# Altium schematic symbol library TI Series.SchLib: 53 symbols
Pins are listed as number, name and electrical type; pins without a type are passive.

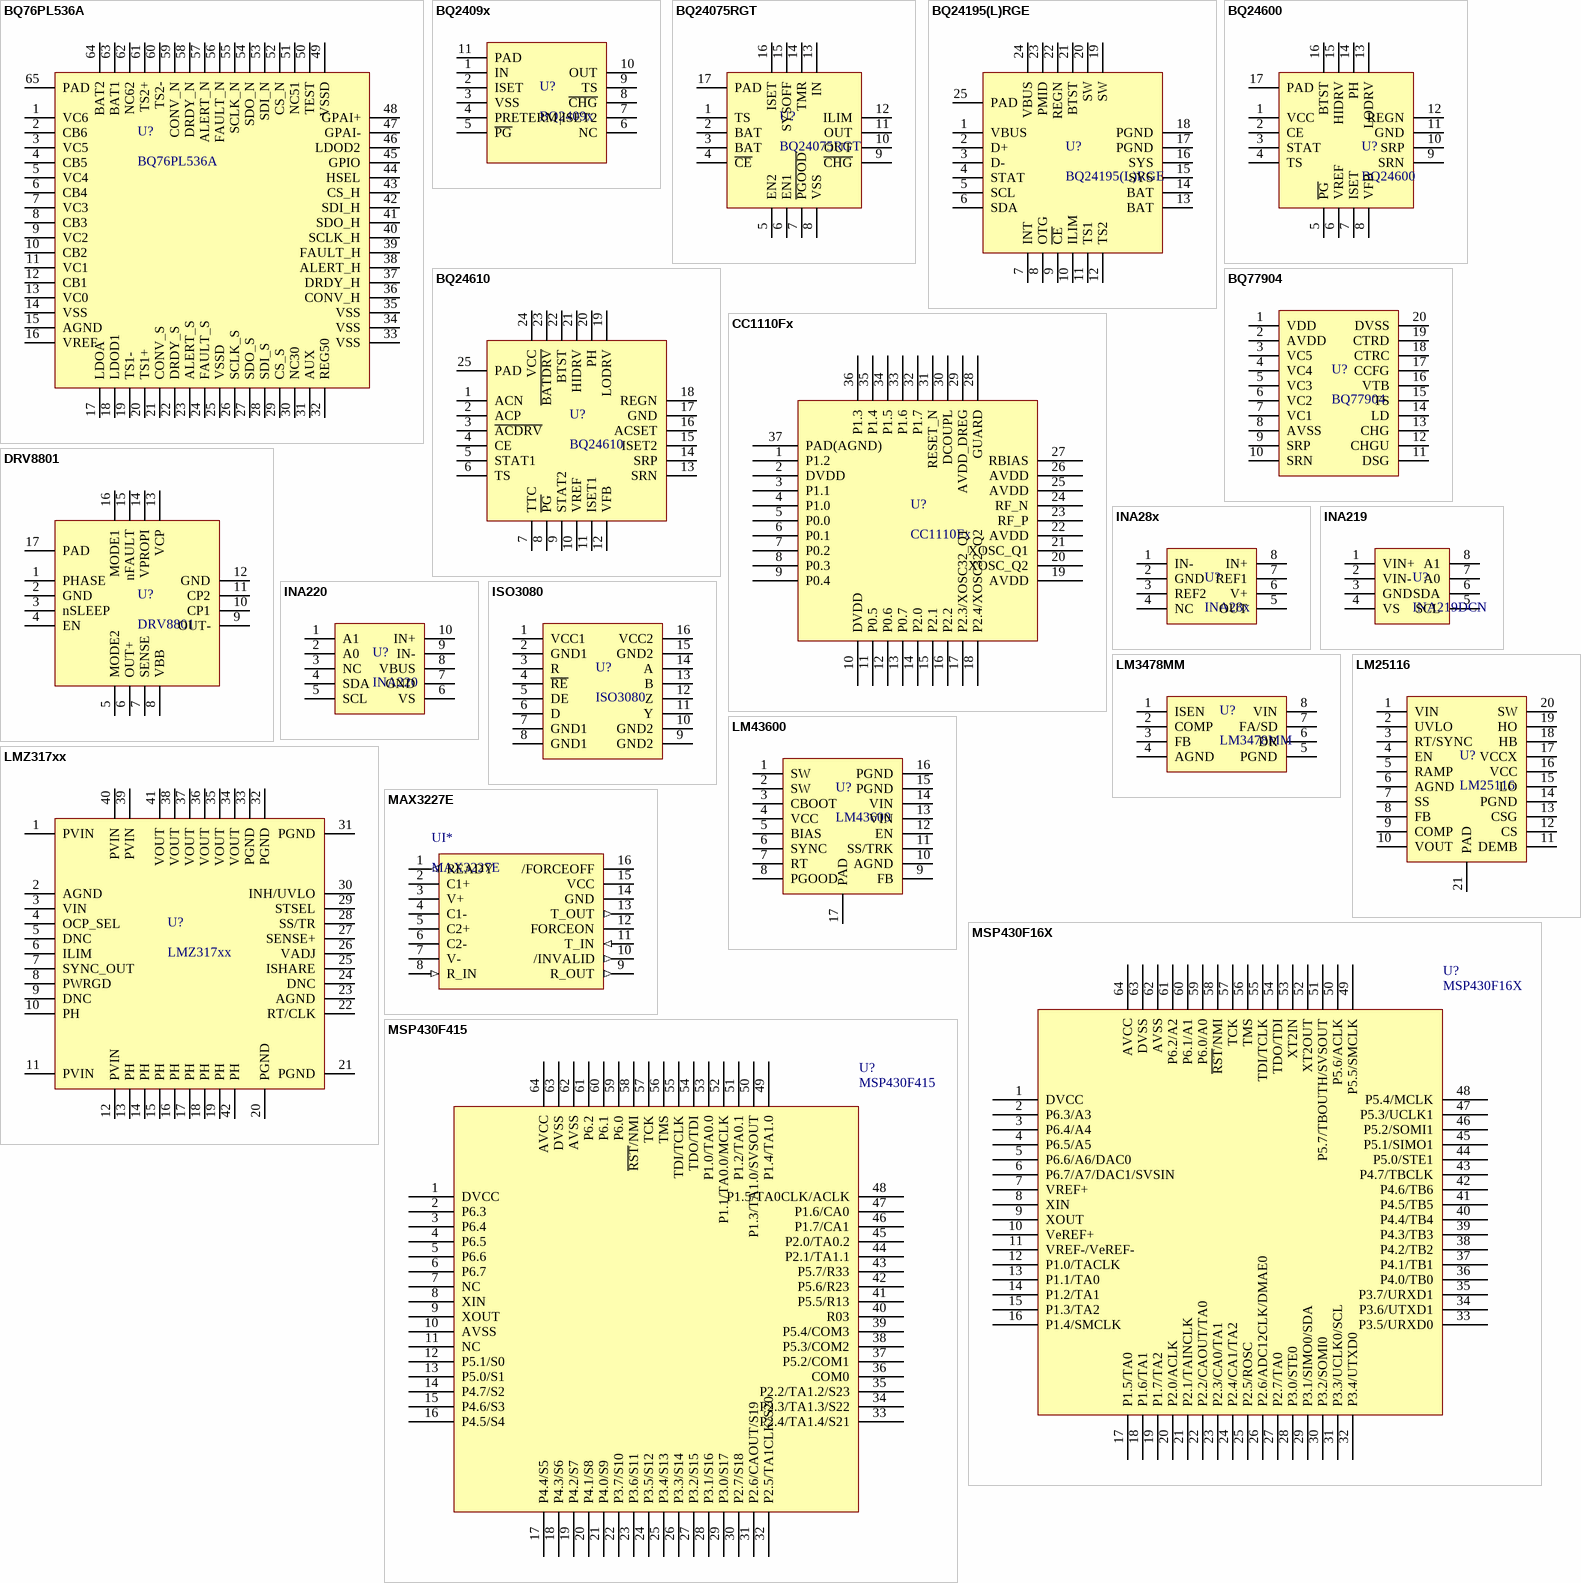
[diagram p0: symbols BQ76PL536A to MSP430F415]

## BQ76PL536A
designator U?
3-to-6 Series Cell Lithium-Ion Battery Monitor and Secondary Protection IC  for Applications
footprint QFP-64-10x10-w.TP-IPC (TSQFP, 64-Leads, Body 10.00x10.00mm, Pitch 0.50mm, Thermal Pad 6.50x6.50mm, IPC Medium Density)
pins: 1 VC6, 2 CB6, 3 VC5, 4 CB5, 5 VC4, 6 CB4, 7 VC3, 8 CB3, 9 VC2, 10 CB2, 11 VC1, 12 CB1, 13 VC0, 14 VSS, 15 AGND, 16 VREF, 17 LDOA, 18 LDOD1, 19 TS1-, 20 TS1+, 21 CONV_S, 22 DRDY_S, 23 ALERT_S, 24 FAULT_S, 25 VSSD, 26 SCLK_S, 27 SDO_S, 28 SDI_S, 29 CS_S, 30 NC30, 31 AUX, 32 REG50, 33 VSS, 34 VSS, 35 VSS, 36 CONV_H, 37 DRDY_H, 38 ALERT_H, 39 FAULT_H, 40 SCLK_H, 41 SDO_H, 42 SDI_H, 43 CS_H, 44 HSEL, 45 GPIO, 46 LDOD2, 47 GPAI-, 48 GPAI+, 49 VSSD, 50 TEST, 51 NC51, 52 CS_N, 53 SDI_N, 54 SDO_N, 55 SCLK_N, 56 FAULT_N, 57 ALERT_N, 58 DRDY_N, 59 CONV_N, 60 TS2-, 61 TS2+, 62 NC62, 63 BAT1, 64 BAT2, 65 PAD

## BQ2409x
designator U?
Single-Input, Single Cell Li-Ion and Li-Pol Battery Charger
footprint TSSOP-10-3x3-w.TP-IPC (TSSOP, 10-Leads, Body 3.00x3.00mm, Pitch 0.50mm, Thermal Pad 1.88.2x1.57.2mm, IPC Medium Density)
pins: 1 IN, 2 ISET, 3 VSS, 4 PRETERM, 5 ~{PG}, 6 NC, 7 |ISET2, 8 ~{CHG}, 9 TS, 10 OUT, 11 PAD

## BQ24075RGT
designator U?
1.5A USB-FRIENDLY Li-Ion BATTERY CHARGER AND POWER-PATH MANAGEMENT IC
footprint QFN-16-3x3-w.TP-IPC (QFN, 16-Leads, Body 3.00x3.00mm, Pitch 0.50mm, Thermal Pad 1.60x1.60mm, IPC Medium Density)
pins: 1 TS, 2 BAT, 3 BAT, 4 ~{CE}, 5 EN2, 6 EN1, 7 ~{PGOOD}, 8 VSS, 9 ~{CHG}, 10 OUT, 11 OUT, 12 ILIM, 13 IN, 14 TMR, 15 SYSOFF, 16 ISET, 17 PAD

## BQ24195(L)RGE
designator U?
I2C Controlled 2.5A / 4.5A Single Cell USB/Adapter Charger With 5.1V at 1A / 5.1V at 2.1A Synchronous Boost Operation
footprint QFN-24-4x4-w.TP-IPC (QFN, 24-Leads, Body 4.00x4.00mm, Pitch 0.50mm, Thermal Pad 2.70x2.70mm, IPC Medium Density)
pins: 1 VBUS, 2 D+, 3 D-, 4 STAT, 5 SCL, 6 SDA, 7 INT, 8 OTG, 9 ~{CE}, 10 ILIM, 11 TS1, 12 TS2, 13 BAT, 14 BAT, 15 SYS, 16 SYS, 17 PGND, 18 PGND, 19 SW, 20 SW, 21 BTST, 22 REGN, 23 PMID, 24 VBUS, 25 PAD

## BQ24600
designator U?
Stand-Alone Synchronous Switch-Mode Li-Ion or Li-Polymer Battery Charger with Low Iq
footprint QFN-16-3.5x3.5-w.TP-IPC (QFN, 16-Leads, Body 3.50x3.50mm, Pitch 0.50mm, Thermal Pad 2.14x2.14mm, IPC Medium Density)
pins: 1 VCC, 2 CE, 3 STAT, 4 TS, 5 ~{PG}, 6 VREF, 7 ISET, 8 VFB, 9 SRN, 10 SRP, 11 GND, 12 REGN, 13 LODRV, 14 PH, 15 HIDRV, 16 BTST, 17 PAD

## BQ24610
designator U?
Stand-Alone Synchronous Switched-Mode Li-Ion or Li-Polymer Battery Charger  With System Power Selector and Low Iq
footprint QFN-24-4x4-w.TP-IPC (QFN, 24-Leads, Body 4.00x4.00mm, Pitch 0.50mm, Thermal Pad 2.70x2.70mm, IPC Medium Density)
pins: 1 ACN, 2 ACP, 3 ~{ACDRV}, 4 CE, 5 STAT1, 6 TS, 7 TTC, 8 ~{PG}, 9 STAT2, 10 VREF, 11 ISET1, 12 VFB, 13 SRN, 14 SRP, 15 ISET2, 16 ACSET, 17 GND, 18 REGN, 19 LODRV, 20 PH, 21 HIDRV, 22 BTST, 23 ~{BATDRV}, 24 VCC, 25 PAD

## BQ77904
designator U?
3-5S Ultra Low-Power Voltage, Current, Temperature, and Open Wire Stackable Lithium-ion Battery Protector
footprint TSSOP-20-4.4x6.5-IPC (TSSOP, 20-Leads, Body 6.50x4.40mm, Pitch 0.65mm, IPC Medium Density)
pins: 1 VDD, 2 AVDD, 3 VC5, 4 VC4, 5 VC3, 6 VC2, 7 VC1, 8 AVSS, 9 SRP, 10 SRN, 11 DSG, 12 CHGU, 13 CHG, 14 LD, 15 TS, 16 VTB, 17 CCFG, 18 CTRC, 19 CTRD, 20 DVSS

## CC1110Fx
designator U?
Low-Power SoC (System-on-Chip) with MCU, Memory,   Sub-1 GHz RF T ransceiver
footprint QFN-36-6x6-w.TP-IPC (QFN, 36-Leads, Body 6.00x6.00mm, Pitch 0.50mm, Thermal Pad 4.40x4.40mm, IPC Medium Density)
pins: 1 P1.2, 2 DVDD, 3 P1.1, 4 P1.0, 5 P0.0, 6 P0.1, 7 P0.2, 8 P0.3, 9 P0.4, 10 DVDD, 11 P0.5, 12 P0.6, 13 P0.7, 14 P2.0, 15 P2.1, 16 P2.2, 17 P2.3/XOSC32_Q1, 18 P2.4/XOSC32_Q2, 19 AVDD, 20 XOSC_Q2, 21 XOSC_Q1, 22 AVDD, 23 RF_P, 24 RF_N, 25 AVDD, 26 AVDD, 27 RBIAS, 28 GUARD, 29 AVDD_DREG, 30 DCOUPL, 31 RESET_N, 32 P1.7, 33 P1.6, 34 P1.5, 35 P1.4, 36 P1.3, 37 PAD(AGND)

## DRV8801
designator U?
DMOS Full-Bridge Motor Drivers
footprint QFN-16-4x4-w.TP-IPC (QFN, 16-Leads, Body 4.00x4.00mm, Pitch 0.65mm, Thermal Pad 2.70x2.70mm, IPC Medium Density)
pins: 1 PHASE, 2 GND, 3 nSLEEP, 4 EN, 5 MODE2, 6 OUT+, 7 SENSE, 8 VBB, 9 OUT-, 10 CP1, 11 CP2, 12 GND, 13 VCP, 14 VPROPI, 15 nFAULT, 16 MODE1, 17 PAD

## INA28x
designator U?
High-Accuracy, Wide Common-Mode Range, Bidirectional  Current Shunt Monitors, Zero-Drift Series
footprint SOP-8-3.9x4.9-IPC (SOP, 8-Leads, Body 4.90x3.90mm, Pitch 1.27mm, IPC Medium Density)
pins: 1 IN-, 2 GND, 3 REF2, 4 NC, 5 OUT, 6 V+, 7 REF1, 8 IN+

## INA219
designator U?, comment INA219DCN
Zero-Drift, Bi-Directional CURRENT/POWER MONITOR with I2C Interface
footprint SOT23-8-IPC (SOT23, 8-Leads, Body 2.90x2.80mm, Pitch 0.65mm, IPC Medium Density)
pins: 1 VIN+, 2 VIN-, 3 GND, 4 VS, 5 SCL, 6 SDA, 7 A0, 8 A1

## INA220
designator U?
High- or Low-Side, Bidirectional Current and Power Monitor With Two-Wire Interface
footprint TSSOP-10-3x3-IPC (TSSOP, 10-Leads, Body 3.00x3.00mm, Pitch 0.50mm, IPC Medium Density)
pins: 1 A1, 2 A0, 3 NC, 4 SDA, 5 SCL, 6 VS, 7 GND, 8 VBUS, 9 IN-, 10 IN+

## ISO3080
designator U?
ISOLATED 5-V FULL-DUPLEX RS-485 TRANSCEIVERS
footprint SOP-16-7.5x10.3-IPC (SOIC, 16-Leads, Body 10.30x7.50mm, Pitch 1.27mm, IPC Medium Density)
pins: 1 VCC1, 2 GND1, 3 R, 4 ~{RE}, 5 DE, 6 D, 7 GND1, 8 GND1, 9 GND2, 10 GND2, 11 Y, 12 Z, 13 B, 14 A, 15 GND2, 16 VCC2

## LM3478MM
designator U?
High-Efficiency Low-Side N-Channel Controller for Switching Regulator
footprint TSSOP-8-3x3-IPC (TSSOP, 8-Leads, Body 3.00x3.00mm, Pitch 0.65mm, IPC Medium Density)
pins: 1 ISEN, 2 COMP, 3 FB, 4 AGND, 5 PGND, 6 DR, 7 FA/SD, 8 VIN

## LM25116
designator U?
Wide-Range Synchronous Buck Controller
footprint TSSOP-20-4.4x6.5-w.TP-IPC (TSOP, 20-Leads, Body 6.50x4.40mm, Pitch 0.65mm, Thermal Pad 4.35.2x3.15.2mm, IPC Medium Density)
pins: 1 VIN, 2 UVLO, 3 RT/SYNC, 4 EN, 5 RAMP, 6 AGND, 7 SS, 8 FB, 9 COMP, 10 VOUT, 11 DEMB, 12 CS, 13 CSG, 14 PGND, 15 LO, 16 VCC, 17 VCCX, 18 HB, 19 HO, 20 SW, 21 PAD

## LM43600
designator U?
SIMPLE SWITCHER? 3.5 V to 36 V 0.5 A Synchronous Step-Down Voltage Converter
footprint TSSOP-16-4.4x5.0-w.TP-IPC (TSOP, 16-Leads, Body 5.00x4.40mm, Pitch 0.65mm, Thermal Pad 3.29.2x2.41.2mm, IPC Medium Density)
pins: 1 SW, 2 SW, 3 CBOOT, 4 VCC, 5 BIAS, 6 SYNC, 7 RT, 8 PGOOD, 9 FB, 10 AGND, 11 SS/TRK, 12 EN, 13 VIN, 14 VIN, 15 PGND, 16 PGND, 17 PAD

## LMZ317xx
designator U?
SIMPLE SWITCHER? Power Module with 2.95-V to 17-V Input and  Current Sharing in QFN Package
footprint QFN(TI-RVQ)-42-10x10-IPC (QFN(TI-RVQ), 42-Leads, Body 10.00x10.00mm, Pitch 0.80mm, IPC Medium Density)
pins: 1 PVIN, 2 AGND, 3 VIN, 4 OCP_SEL, 5 DNC, 6 ILIM, 7 SYNC_OUT, 8 PWRGD, 9 DNC, 10 PH, 11 PVIN, 12 PVIN, 13 PH, 14 PH, 15 PH, 16 PH, 17 PH, 18 PH, 19 PH, 20 PGND, 21 PGND, 22 RT/CLK, 23 AGND, 24 DNC, 25 ISHARE, 26 VADJ, 27 SENSE+, 28 SS/TR, 29 STSEL, 30 INH/UVLO, 31 PGND, 32 PGND, 33 PGND, 34 VOUT, 35 VOUT, 36 VOUT, 37 VOUT, 38 VOUT, 39 PVIN, 40 PVIN, 41 VOUT, 42 PH

## MAX3227E
designator UI*
RS-232 Transceiver
footprint SSOP-16_208mil
pins: 1 READY (out), 2 C1+, 3 V+, 4 C1-, 5 C2+, 6 C2-, 7 V-, 8 R_IN (in), 9 R_OUT (out), 10 /INVALID (out), 11 T_IN (in), 12 FORCEON, 13 T_OUT (out), 14 GND (power), 15 VCC (power), 16 /FORCEOFF

## MSP430F16X
designator U?
MSP430F16x, MSP430F161x  MIXED SIGNAL MICROCONTROLLER
footprint QFP-64-10x10-IPC (QFP, 64-Leads, Body 10.00x10.00mm, Pitch 0.50mm, IPC Medium Density)
pins: 1 DVCC, 2 P6.3/A3, 3 P6.4/A4, 4 P6.5/A5, 5 P6.6/A6/DAC0, 6 P6.7/A7/DAC1/SVSIN, 7 VREF+, 8 XIN, 9 XOUT, 10 VeREF+, 11 VREF-/VeREF-, 12 P1.0/TACLK, 13 P1.1/TA0, 14 P1.2/TA1, 15 P1.3/TA2, 16 P1.4/SMCLK, 17 P1.5/TA0, 18 P1.6/TA1, 19 P1.7/TA2, 20 P2.0/ACLK, 21 P2.1/TAINCLK, 22 P2.2/CAOUT/TA0, 23 P2.3/CA0/TA1, 24 P2.4/CA1/TA2, 25 P2.5/ROSC, 26 P2.6/ADC12CLK/DMAE0, 27 P2.7/TA0, 28 P3.0/STE0, 29 P3.1/SIMO0/SDA, 30 P3.2/SOMI0, 31 P3.3/UCLK0/SCL, 32 P3.4/UTXD0, 33 P3.5/URXD0, 34 P3.6/UTXD1, 35 P3.7/URXD1, 36 P4.0/TB0, 37 P4.1/TB1, 38 P4.2/TB2, 39 P4.3/TB3, 40 P4.4/TB4, 41 P4.5/TB5, 42 P4.6/TB6, 43 P4.7/TBCLK, 44 P5.0/STE1, 45 P5.1/SIMO1, 46 P5.2/SOMI1, 47 P5.3/UCLK1, 48 P5.4/MCLK, 49 P5.5/SMCLK, 50 P5.6/ACLK, 51 P5.7/TBOUTH/SVSOUT, 52 XT2OUT, 53 XT2IN, 54 TDO/TDI, 55 TDI/TCLK, 56 TMS, 57 TCK, 58 ~{RST}/NMI, 59 P6.0/A0, 60 P6.1/A1, 61 P6.2/A2, 62 AVSS, 63 DVSS, 64 AVCC

## MSP430F415
designator U?
MIXED SIGNAL MICROCONTROLLER
footprint QFP-64-10x10-IPC (QFP, 64-Leads, Body 10.00x10.00mm, Pitch 0.50mm, IPC Medium Density)
pins: 1 DVCC, 2 P6.3, 3 P6.4, 4 P6.5, 5 P6.6, 6 P6.7, 7 NC, 8 XIN, 9 XOUT, 10 AVSS, 11 NC, 12 P5.1/S0, 13 P5.0/S1, 14 P4.7/S2, 15 P4.6/S3, 16 P4.5/S4, 17 P4.4/S5, 18 P4.3/S6, 19 P4.2/S7, 20 P4.1/S8, 21 P4.0/S9, 22 P3.7/S10, 23 P3.6/S11, 24 P3.5/S12, 25 P3.4/S13, 26 P3.3/S14, 27 P3.2/S15, 28 P3.1/S16, 29 P3.0/S17, 30 P2.7/S18, 31 P2.6/CAOUT/S19, 32 P2.5/TA1CLK/S20, 33 P2.4/TA1.4/S21, 34 P2.3/TA1.3/S22, 35 P2.2/TA1.2/S23, 36 COM0, 37 P5.2/COM1, 38 P5.3/COM2, 39 P5.4/COM3, 40 R03, 41 P5.5/R13, 42 P5.6/R23, 43 P5.7/R33, 44 P2.1/TA1.1, 45 P2.0/TA0.2, 46 P1.7/CA1, 47 P1.6/CA0, 48 P1.5/TA0CLK/ACLK, 49 P1.4/TA1.0, 50 P1.3/TA1.0/SVSOUT, 51 P1.2/TA0.1, 52 P1.1/TA0.0/MCLK, 53 P1.0/TA0.0, 54 TDO/TDI, 55 TDI/TCLK, 56 TMS, 57 TCK, 58 ~{RST}/NMI, 59 P6.0, 60 P6.1, 61 P6.2, 62 AVSS, 63 DVSS, 64 AVCC

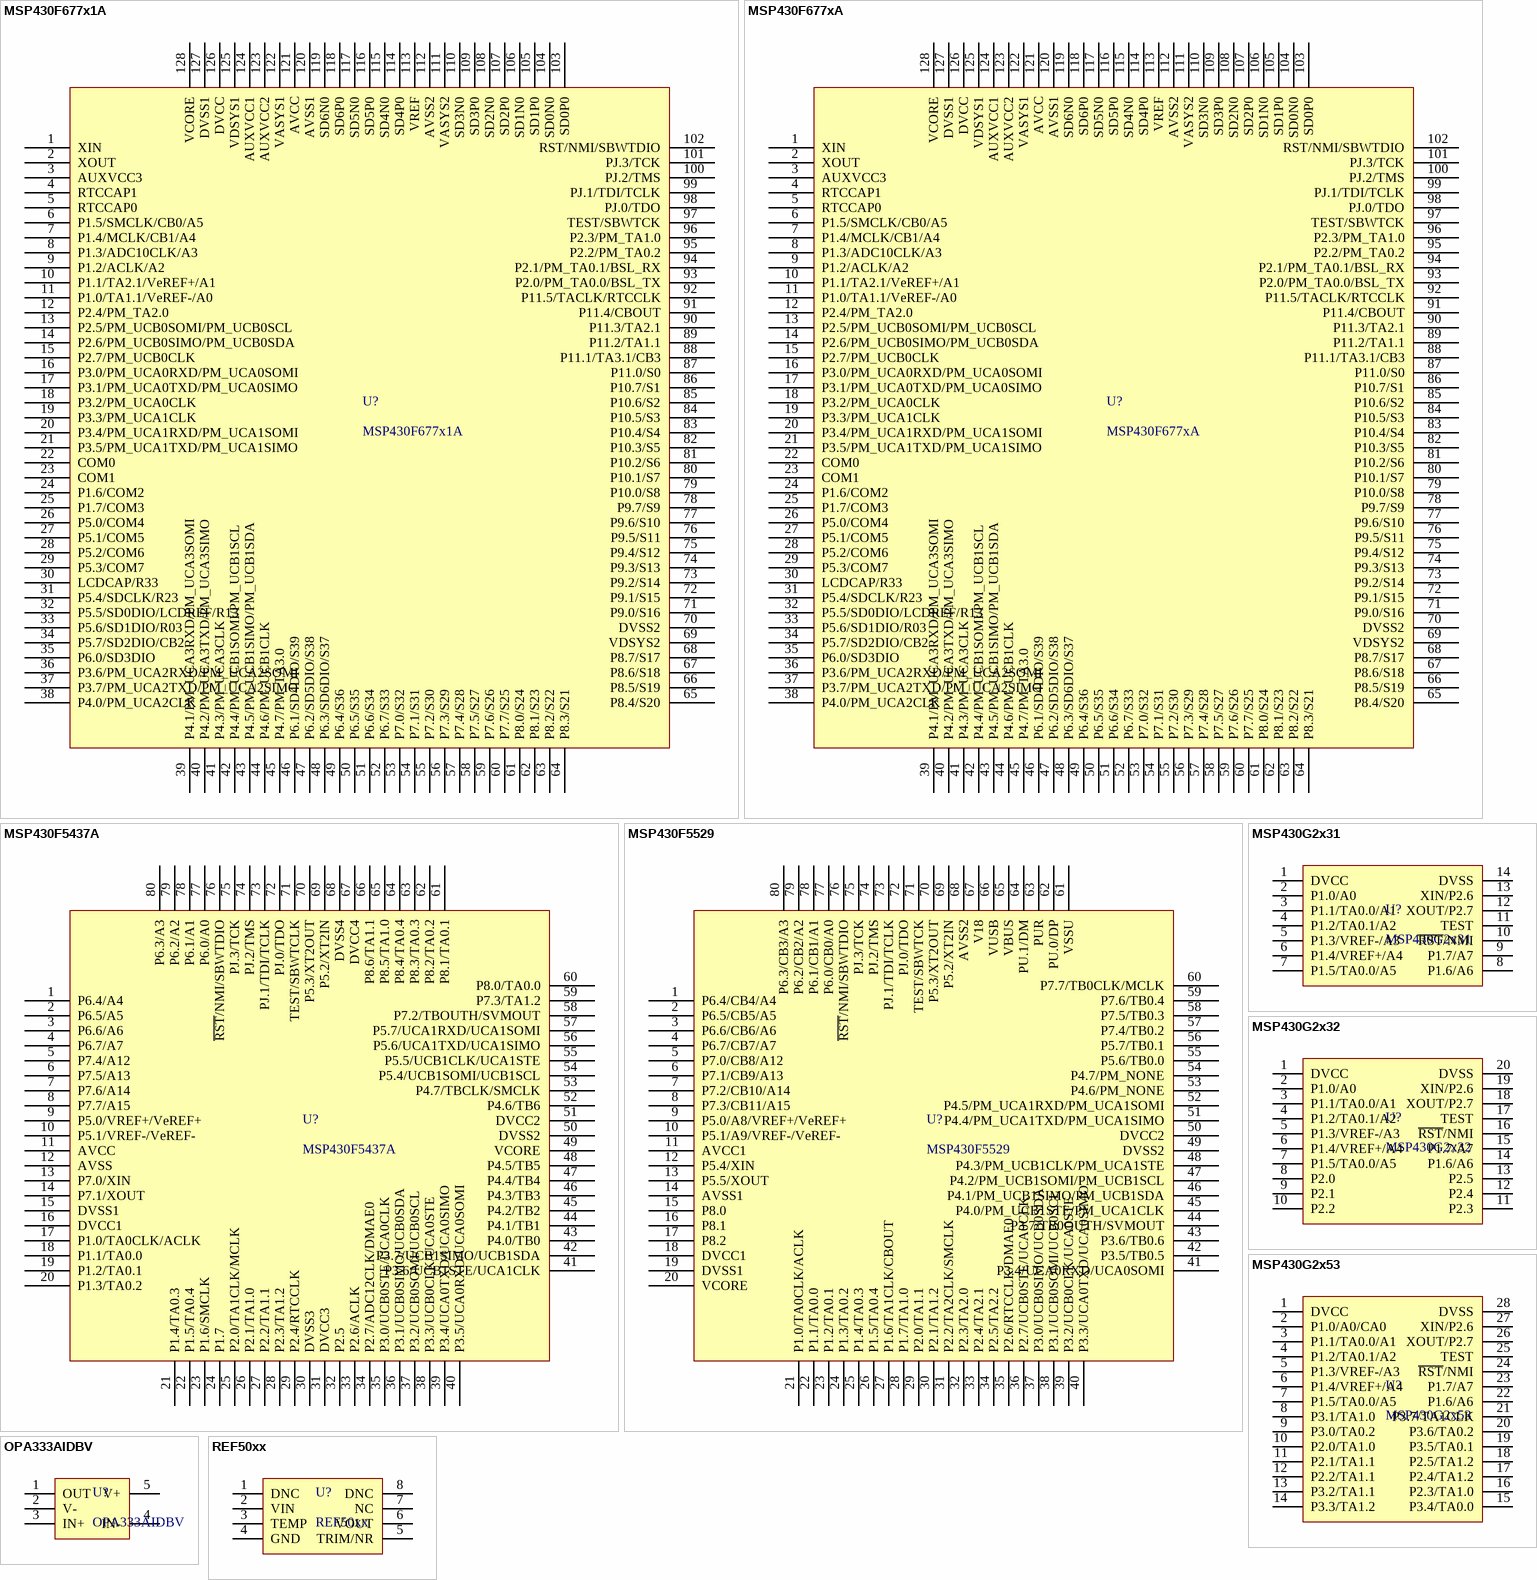
[diagram p1: symbols MSP430F677x1A to REF50xx]

## MSP430F677x1A
designator U?
Polyphase Metering SoCs
footprint QFP-128-14X20-IPC (TSQFP, 128-Leads, Body 14.00x20.00mm, Pitch 0.50mm, IPC Medium Density)
pins: 1 XIN, 2 XOUT, 3 AUXVCC3, 4 RTCCAP1, 5 RTCCAP0, 6 P1.5/SMCLK/CB0/A5, 7 P1.4/MCLK/CB1/A4, 8 P1.3/ADC10CLK/A3, 9 P1.2/ACLK/A2, 10 P1.1/TA2.1/VeREF+/A1, 11 P1.0/TA1.1/VeREF-/A0, 12 P2.4/PM_TA2.0, 13 P2.5/PM_UCB0SOMI/PM_UCB0SCL, 14 P2.6/PM_UCB0SIMO/PM_UCB0SDA, 15 P2.7/PM_UCB0CLK, 16 P3.0/PM_UCA0RXD/PM_UCA0SOMI, 17 P3.1/PM_UCA0TXD/PM_UCA0SIMO, 18 P3.2/PM_UCA0CLK, 19 P3.3/PM_UCA1CLK, 20 P3.4/PM_UCA1RXD/PM_UCA1SOMI, 21 P3.5/PM_UCA1TXD/PM_UCA1SIMO, 22 COM0, 23 COM1, 24 P1.6/COM2, 25 P1.7/COM3, 26 P5.0/COM4, 27 P5.1/COM5, 28 P5.2/COM6, 29 P5.3/COM7, 30 LCDCAP/R33, 31 P5.4/SDCLK/R23, 32 P5.5/SD0DIO/LCDREF/R13, 33 P5.6/SD1DIO/R03, 34 P5.7/SD2DIO/CB2, 35 P6.0/SD3DIO, 36 P3.6/PM_UCA2RXD/PM_UCA2SOMI, 37 P3.7/PM_UCA2TXD/PM_UCA2SIMO, 38 P4.0/PM_UCA2CLK, 39 P4.1/PM_UCA3RXD/PM_UCA3SOMI, 40 P4.2/PM_UCA3TXD/PM_UCA3SIMO, 41 P4.3/PM_UCA3CLK, 42 P4.4/PM_UCB1SOMI/PM_UCB1SCL, 43 P4.5/PM_UCB1SIMO/PM_UCB1SDA, 44 P4.6/PM_UCB1CLK, 45 P4.7/PM_TA3.0, 46 P6.1/SD4DIO/S39, 47 P6.2/SD5DIO/S38, 48 P6.3/SD6DIO/S37, 49 P6.4/S36, 50 P6.5/S35, 51 P6.6/S34, 52 P6.7/S33, 53 P7.0/S32, 54 P7.1/S31, 55 P7.2/S30, 56 P7.3/S29, 57 P7.4/S28, 58 P7.5/S27, 59 P7.6/S26, 60 P7.7/S25, 61 P8.0/S24, 62 P8.1/S23, 63 P8.2/S22, 64 P8.3/S21, 65 P8.4/S20, 66 P8.5/S19, 67 P8.6/S18, 68 P8.7/S17, 69 VDSYS2, 70 DVSS2, 71 P9.0/S16, 72 P9.1/S15, 73 P9.2/S14, 74 P9.3/S13, 75 P9.4/S12, 76 P9.5/S11, 77 P9.6/S10, 78 P9.7/S9, 79 P10.0/S8, 80 P10.1/S7, 81 P10.2/S6, 82 P10.3/S5, 83 P10.4/S4, 84 P10.5/S3, 85 P10.6/S2, 86 P10.7/S1, 87 P11.0/S0, 88 P11.1/TA3.1/CB3, 89 P11.2/TA1.1, 90 P11.3/TA2.1, 91 P11.4/CBOUT, 92 P11.5/TACLK/RTCCLK, 93 P2.0/PM_TA0.0/BSL_TX, 94 P2.1/PM_TA0.1/BSL_RX, 95 P2.2/PM_TA0.2, 96 P2.3/PM_TA1.0, 97 TEST/SBWTCK, 98 PJ.0/TDO, 99 PJ.1/TDI/TCLK, 100 PJ.2/TMS, 101 PJ.3/TCK, 102 RST/NMI/SBWTDIO, 103 SD0P0, 104 SD0N0, 105 SD1P0, 106 SD1N0, 107 SD2P0, 108 SD2N0, 109 SD3P0, 110 SD3N0, 111 VASYS2, 112 AVSS2, 113 VREF, 114 SD4P0, 115 SD4N0, 116 SD5P0, 117 SD5N0, 118 SD6P0, 119 SD6N0, 120 AVSS1, 121 AVCC, 122 VASYS1, 123 AUXVCC2, 124 AUXVCC1, 125 VDSYS1, 126 DVCC, 127 DVSS1, 128 VCORE

## MSP430F677xA
designator U?
Polyphase Metering SoCs
footprint QFP-128-14X20-IPC (TSQFP, 128-Leads, Body 14.00x20.00mm, Pitch 0.50mm, IPC Medium Density)
pins: 1 XIN, 2 XOUT, 3 AUXVCC3, 4 RTCCAP1, 5 RTCCAP0, 6 P1.5/SMCLK/CB0/A5, 7 P1.4/MCLK/CB1/A4, 8 P1.3/ADC10CLK/A3, 9 P1.2/ACLK/A2, 10 P1.1/TA2.1/VeREF+/A1, 11 P1.0/TA1.1/VeREF-/A0, 12 P2.4/PM_TA2.0, 13 P2.5/PM_UCB0SOMI/PM_UCB0SCL, 14 P2.6/PM_UCB0SIMO/PM_UCB0SDA, 15 P2.7/PM_UCB0CLK, 16 P3.0/PM_UCA0RXD/PM_UCA0SOMI, 17 P3.1/PM_UCA0TXD/PM_UCA0SIMO, 18 P3.2/PM_UCA0CLK, 19 P3.3/PM_UCA1CLK, 20 P3.4/PM_UCA1RXD/PM_UCA1SOMI, 21 P3.5/PM_UCA1TXD/PM_UCA1SIMO, 22 COM0, 23 COM1, 24 P1.6/COM2, 25 P1.7/COM3, 26 P5.0/COM4, 27 P5.1/COM5, 28 P5.2/COM6, 29 P5.3/COM7, 30 LCDCAP/R33, 31 P5.4/SDCLK/R23, 32 P5.5/SD0DIO/LCDREF/R13, 33 P5.6/SD1DIO/R03, 34 P5.7/SD2DIO/CB2, 35 P6.0/SD3DIO, 36 P3.6/PM_UCA2RXD/PM_UCA2SOMI, 37 P3.7/PM_UCA2TXD/PM_UCA2SIMO, 38 P4.0/PM_UCA2CLK, 39 P4.1/PM_UCA3RXD/PM_UCA3SOMI, 40 P4.2/PM_UCA3TXD/PM_UCA3SIMO, 41 P4.3/PM_UCA3CLK, 42 P4.4/PM_UCB1SOMI/PM_UCB1SCL, 43 P4.5/PM_UCB1SIMO/PM_UCB1SDA, 44 P4.6/PM_UCB1CLK, 45 P4.7/PM_TA3.0, 46 P6.1/SD4DIO/S39, 47 P6.2/SD5DIO/S38, 48 P6.3/SD6DIO/S37, 49 P6.4/S36, 50 P6.5/S35, 51 P6.6/S34, 52 P6.7/S33, 53 P7.0/S32, 54 P7.1/S31, 55 P7.2/S30, 56 P7.3/S29, 57 P7.4/S28, 58 P7.5/S27, 59 P7.6/S26, 60 P7.7/S25, 61 P8.0/S24, 62 P8.1/S23, 63 P8.2/S22, 64 P8.3/S21, 65 P8.4/S20, 66 P8.5/S19, 67 P8.6/S18, 68 P8.7/S17, 69 VDSYS2, 70 DVSS2, 71 P9.0/S16, 72 P9.1/S15, 73 P9.2/S14, 74 P9.3/S13, 75 P9.4/S12, 76 P9.5/S11, 77 P9.6/S10, 78 P9.7/S9, 79 P10.0/S8, 80 P10.1/S7, 81 P10.2/S6, 82 P10.3/S5, 83 P10.4/S4, 84 P10.5/S3, 85 P10.6/S2, 86 P10.7/S1, 87 P11.0/S0, 88 P11.1/TA3.1/CB3, 89 P11.2/TA1.1, 90 P11.3/TA2.1, 91 P11.4/CBOUT, 92 P11.5/TACLK/RTCCLK, 93 P2.0/PM_TA0.0/BSL_TX, 94 P2.1/PM_TA0.1/BSL_RX, 95 P2.2/PM_TA0.2, 96 P2.3/PM_TA1.0, 97 TEST/SBWTCK, 98 PJ.0/TDO, 99 PJ.1/TDI/TCLK, 100 PJ.2/TMS, 101 PJ.3/TCK, 102 RST/NMI/SBWTDIO, 103 SD0P0, 104 SD0N0, 105 SD1P0, 106 SD1N0, 107 SD2P0, 108 SD2N0, 109 SD3P0, 110 SD3N0, 111 VASYS2, 112 AVSS2, 113 VREF, 114 SD4P0, 115 SD4N0, 116 SD5P0, 117 SD5N0, 118 SD6P0, 119 SD6N0, 120 AVSS1, 121 AVCC, 122 VASYS1, 123 AUXVCC2, 124 AUXVCC1, 125 VDSYS1, 126 DVCC, 127 DVSS1, 128 VCORE

## MSP430F5437A
designator U?
Mixed Signal Microcontroller
footprint QFP-80-12x12-IPC (QFP, 80-Leads, Body 12.00x12.00mm, Pitch 0.50mm, IPC Medium Density)
pins: 1 P6.4/A4, 2 P6.5/A5, 3 P6.6/A6, 4 P6.7/A7, 5 P7.4/A12, 6 P7.5/A13, 7 P7.6/A14, 8 P7.7/A15, 9 P5.0/VREF+/VeREF+, 10 P5.1/VREF-/VeREF-, 11 AVCC, 12 AVSS, 13 P7.0/XIN, 14 P7.1/XOUT, 15 DVSS1, 16 DVCC1, 17 P1.0/TA0CLK/ACLK, 18 P1.1/TA0.0, 19 P1.2/TA0.1, 20 P1.3/TA0.2, 21 P1.4/TA0.3, 22 P1.5/TA0.4, 23 P1.6/SMCLK, 24 P1.7, 25 P2.0/TA1CLK/MCLK, 26 P2.1/TA1.0, 27 P2.2/TA1.1, 28 P2.3/TA1.2, 29 P2.4/RTCCLK, 30 DVSS3, 31 DVCC3, 32 P2.5, 33 P2.6/ACLK, 34 P2.7/ADC12CLK/DMAE0, 35 P3.0/UCB0STE/UCA0CLK, 36 P3.1/UCB0SIMO/UCB0SDA, 37 P3.2/UCB0SOMI/UCB0SCL, 38 P3.3/UCB0CLK/UCA0STE, 39 P3.4/UCA0TXD/UCA0SIMO, 40 P3.5/UCA0RXD/UCA0SOMI, 41 P3.6/UCB1STE/UCA1CLK, 42 P3.7/UCB1SIMO/UCB1SDA, 43 P4.0/TB0, 44 P4.1/TB1, 45 P4.2/TB2, 46 P4.3/TB3, 47 P4.4/TB4, 48 P4.5/TB5, 49 VCORE, 50 DVSS2, 51 DVCC2, 52 P4.6/TB6, 53 P4.7/TBCLK/SMCLK, 54 P5.4/UCB1SOMI/UCB1SCL, 55 P5.5/UCB1CLK/UCA1STE, 56 P5.6/UCA1TXD/UCA1SIMO, 57 P5.7/UCA1RXD/UCA1SOMI, 58 P7.2/TBOUTH/SVMOUT, 59 P7.3/TA1.2, 60 P8.0/TA0.0, 61 P8.1/TA0.1, 62 P8.2/TA0.2, 63 P8.3/TA0.3, 64 P8.4/TA0.4, 65 P8.5/TA1.0, 66 P8.6/TA1.1, 67 DVCC4, 68 DVSS4, 69 P5.2/XT2IN, 70 P5.3/XT2OUT, 71 TEST/SBWTCLK, 72 PJ.0/TDO, 73 PJ.1/TDI/TCLK, 74 PJ.2/TMS, 75 PJ.3/TCK, 76 ~{RST}/NMI/SBWTDIO, 77 P6.0/A0, 78 P6.1/A1, 79 P6.2/A2, 80 P6.3/A3

## MSP430F5529
designator U?
Mixed Signal Microcontroller
footprint QFP-80-12x12-IPC (QFP, 80-Leads, Body 12.00x12.00mm, Pitch 0.50mm, IPC Medium Density)
pins: 1 P6.4/CB4/A4, 2 P6.5/CB5/A5, 3 P6.6/CB6/A6, 4 P6.7/CB7/A7, 5 P7.0/CB8/A12, 6 P7.1/CB9/A13, 7 P7.2/CB10/A14, 8 P7.3/CB11/A15, 9 P5.0/A8/VREF+/VeREF+, 10 P5.1/A9/VREF-/VeREF-, 11 AVCC1, 12 P5.4/XIN, 13 P5.5/XOUT, 14 AVSS1, 15 P8.0, 16 P8.1, 17 P8.2, 18 DVCC1, 19 DVSS1, 20 VCORE, 21 P1.0/TA0CLK/ACLK, 22 P1.1/TA0.0, 23 P1.2/TA0.1, 24 P1.3/TA0.2, 25 P1.4/TA0.3, 26 P1.5/TA0.4, 27 P1.6/TA1CLK/CBOUT, 28 P1.7/TA1.0, 29 P2.0/TA1.1, 30 P2.1/TA1.2, 31 P2.2/TA2CLK/SMCLK, 32 P2.3/TA2.0, 33 P2.4/TA2.1, 34 P2.5/TA2.2, 35 P2.6/RTCCLK/DMAE0, 36 P2.7/UCB0STE/UCA0CLK, 37 P3.0/UCB0SIMO/UCB0SDA, 38 P3.1/UCB0SOMI/UCB0SCL, 39 P3.2/UCB0CLK/UCA0STE, 40 P3.3/UCA0TXD/UCA0SIMO, 41 P3.4/UCA0RXD/UCA0SOMI, 42 P3.5/TB0.5, 43 P3.6/TB0.6, 44 P3.7/TB0OUTH/SVMOUT, 45 P4.0/PM_UCB1STE/PM_UCA1CLK, 46 P4.1/PM_UCB1SIMO/PM_UCB1SDA, 47 P4.2/PM_UCB1SOMI/PM_UCB1SCL, 48 P4.3/PM_UCB1CLK/PM_UCA1STE, 49 DVSS2, 50 DVCC2, 51 P4.4/PM_UCA1TXD/PM_UCA1SIMO, 52 P4.5/PM_UCA1RXD/PM_UCA1SOMI, 53 P4.6/PM_NONE, 54 P4.7/PM_NONE, 55 P5.6/TB0.0, 56 P5.7/TB0.1, 57 P7.4/TB0.2, 58 P7.5/TB0.3, 59 P7.6/TB0.4, 60 P7.7/TB0CLK/MCLK, 61 VSSU, 62 PU.0/DP, 63 PUR, 64 PU.1/DM, 65 VBUS, 66 VUSB, 67 V18, 68 AVSS2, 69 P5.2/XT2IN, 70 P5.3/XT2OUT, 71 TEST/SBWTCK, 72 PJ.0/TDO, 73 PJ.1/TDI/TCLK, 74 PJ.2/TMS, 75 PJ.3/TCK, 76 ~{RST}/NMI/SBWTDIO, 77 P6.0/CB0/A0, 78 P6.1/CB1/A1, 79 P6.2/CB2/A2, 80 P6.3/CB3/A3

## MSP430G2x31
designator U?
MIXED SIGNAL MICROCONTROLLER
footprint TSSOP-14-4.4x5-IPC (TSOP, 14-Leads, Body 5.00x4.40mm, Pitch 0.65mm, IPC Medium Density)
pins: 1 DVCC, 2 P1.0/A0, 3 P1.1/TA0.0/A1, 4 P1.2/TA0.1/A2, 5 P1.3/VREF-/A3, 6 P1.4/VREF+/A4, 7 P1.5/TA0.0/A5, 8 P1.6/A6, 9 P1.7/A7, 10 ~{RST}/NMI, 11 TEST, 12 XOUT/P2.7, 13 XIN/P2.6, 14 DVSS

## MSP430G2x32
designator U?
MIXED SIGNAL MICROCONTROLLER
footprint TSSOP-20-4.4x6.5-IPC (TSSOP, 20-Leads, Body 6.50x4.40mm, Pitch 0.65mm, IPC Medium Density)
pins: 1 DVCC, 2 P1.0/A0, 3 P1.1/TA0.0/A1, 4 P1.2/TA0.1/A2, 5 P1.3/VREF-/A3, 6 P1.4/VREF+/A4, 7 P1.5/TA0.0/A5, 8 P2.0, 9 P2.1, 10 P2.2, 11 P2.3, 12 P2.4, 13 P2.5, 14 P1.6/A6, 15 P1.7/A7, 16 ~{RST}/NMI, 17 TEST, 18 XOUT/P2.7, 19 XIN/P2.6, 20 DVSS

## MSP430G2x53
designator U?
MIXED SIGNAL MICROCONTROLLER
footprint TSSOP-28-4.4x9.7-IPC (TSSOP, 28-Leads, Body 9.70x4.40mm, Pitch 0.65mm, IPC Medium Density)
pins: 1 DVCC, 2 P1.0/A0/CA0, 3 P1.1/TA0.0/A1, 4 P1.2/TA0.1/A2, 5 P1.3/VREF-/A3, 6 P1.4/VREF+/A4, 7 P1.5/TA0.0/A5, 8 P3.1/TA1.0, 9 P3.0/TA0.2, 10 P2.0/TA1.0, 11 P2.1/TA1.1, 12 P2.2/TA1.1, 13 P3.2/TA1.1, 14 P3.3/TA1.2, 15 P3.4/TA0.0, 16 P2.3/TA1.0, 17 P2.4/TA1.2, 18 P2.5/TA1.2, 19 P3.5/TA0.1, 20 P3.6/TA0.2, 21 P3.7/TA1CLK, 22 P1.6/A6, 23 P1.7/A7, 24 ~{RST}/NMI, 25 TEST, 26 XOUT/P2.7, 27 XIN/P2.6, 28 DVSS

## OPA333AIDBV
designator U?
Zero-Drift, Bi-Directional CURRENT/POWER MONITOR with I2C Interface
footprint SOT23-5-IPC (SOT23, 5-Leads, Body 2.90x2.80mm, Pitch 0.95mm, IPC Medium Density)
pins: 1 OUT, 2 V-, 3 IN+, 4 IN-, 5 V+

## REF50xx
designator U?
Low-Noise, Very Low Drift, Precision Voltage Reference
footprint SOP-8-3.9x4.9-IPC (SOP, 8-Leads, Body 4.90x3.90mm, Pitch 1.27mm, IPC Medium Density)
footprint TSSOP-8-3x3-IPC (TSSOP, 8-Leads, Body 3.00x3.00mm, Pitch 0.65mm, IPC Medium Density)
pins: 1 DNC, 2 VIN, 3 TEMP, 4 GND, 5 TRIM/NR, 6 VOUT, 7 NC, 8 DNC

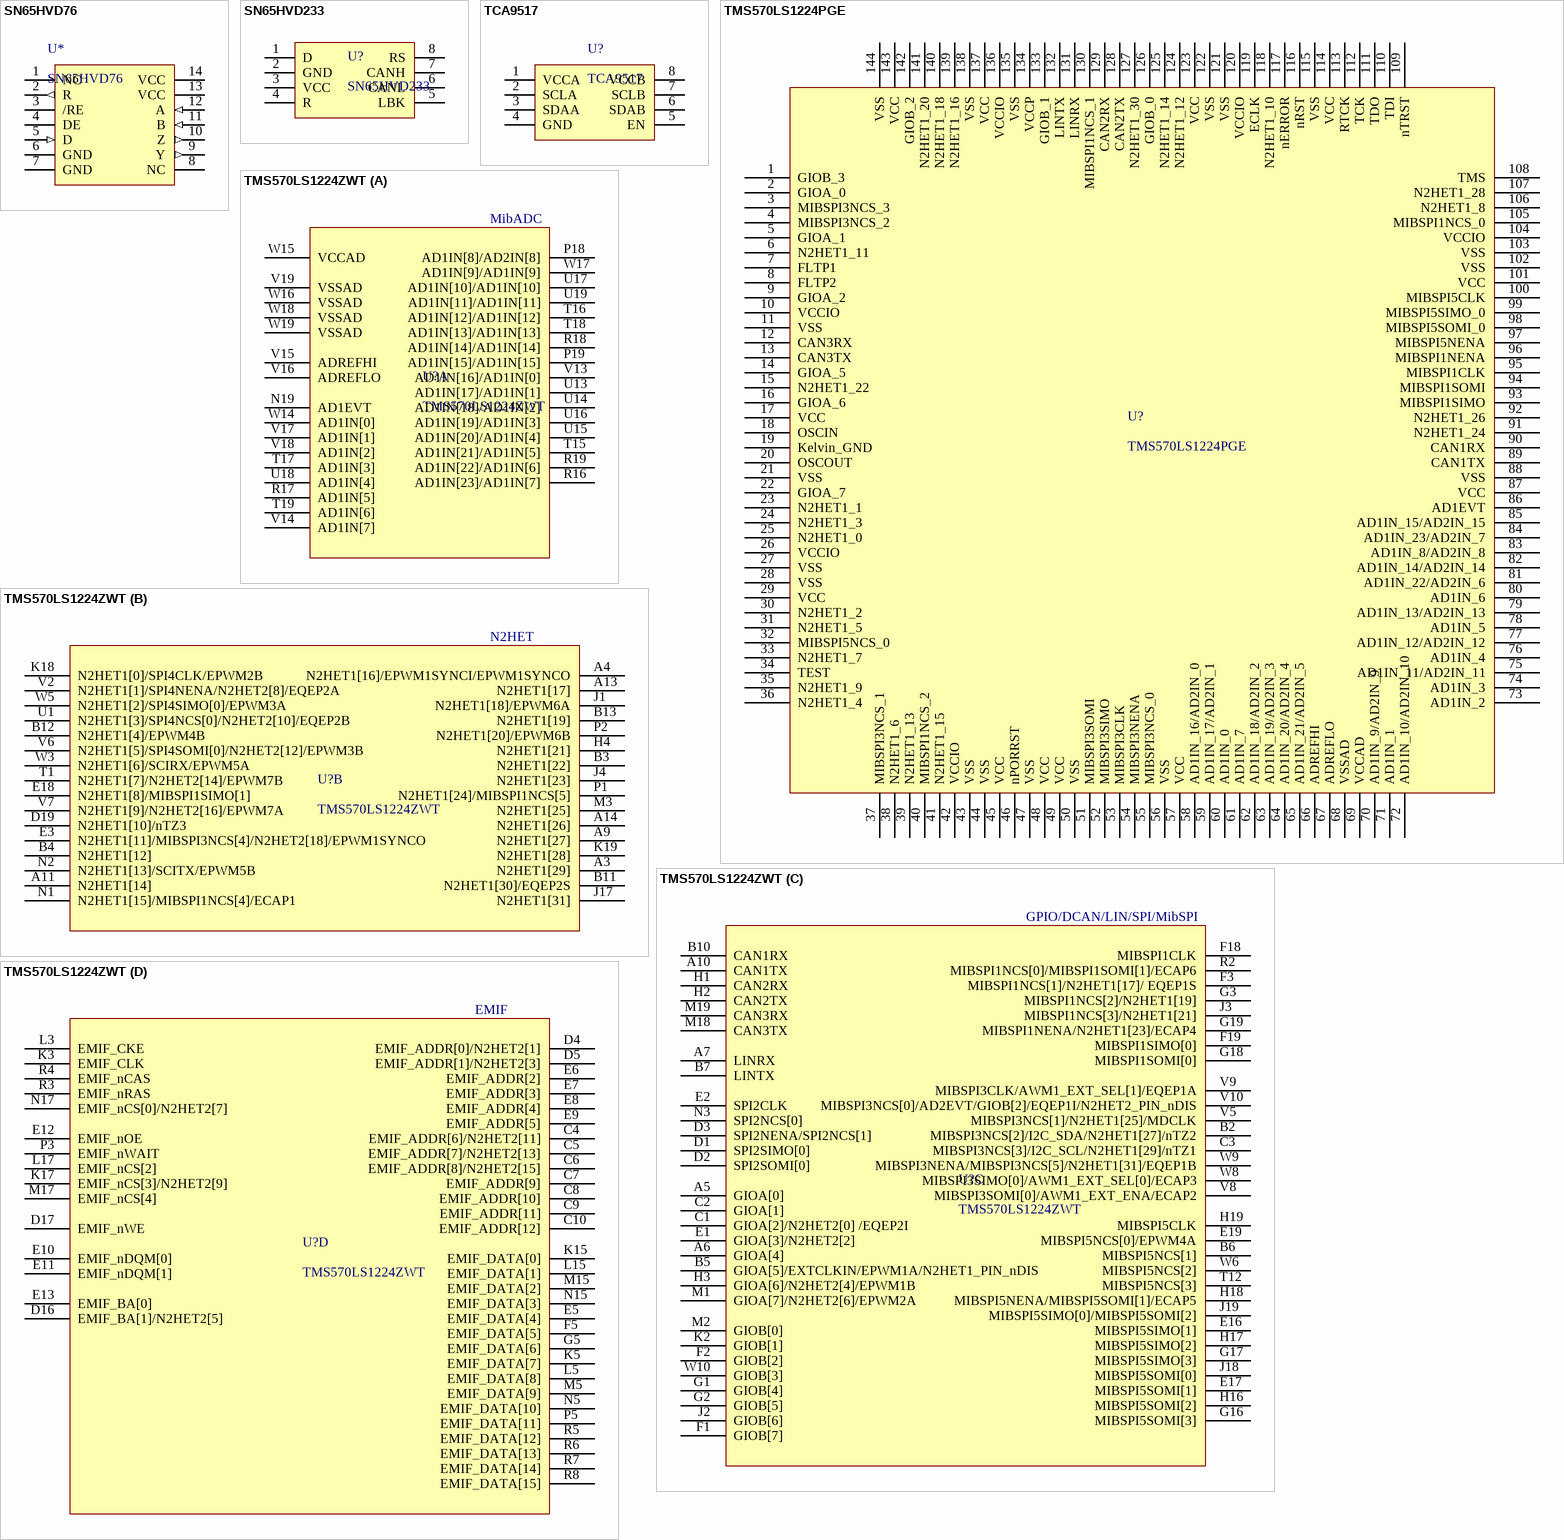
[diagram p2: symbols SN65HVD76 to TMS570LS1224ZWT]

## SN65HVD76
designator U*
3.3-V 422/485 Transceivers
footprint SOIC127P600X175-14N (SOIC, 14-Leads, Body 8.65x3.90mm, Pitch 1.27mm, IPC Medium Density)
pins: 1 NC, 2 R (out), 3 /RE, 4 DE, 5 D (in), 6 GND (power), 7 GND (power), 8 NC (power), 9 Y (out), 10 Z (out), 11 B (in), 12 A (in), 13 VCC (power), 14 VCC (power)

## SN65HVD233
designator U?
3.3-V CAN Bus Transceivers
footprint SOP-8-3.9x4.9-IPC (SOP, 8-Leads, Body 4.90x3.90mm, Pitch 1.27mm, IPC Medium Density)
pins: 1 D, 2 GND, 3 VCC, 4 R, 5 LBK, 6 CANL, 7 CANH, 8 RS

## TCA9517
designator U?
I2C A-side drivers and B-side drivers
footprint TSSOP-8-3x3-IPC (TSSOP, 8-Leads, Body 3.00x3.00mm, Pitch 0.65mm, IPC Medium Density)
pins: 1 VCCA (power), 2 SCLA, 3 SDAA, 4 GND, 5 EN, 6 SDAB, 7 SCLB, 8 VCCB

## TMS570LS1224PGE
designator U?
16- and 32-Bit RISC Flash Microcontroller
footprint QFP-144-20x20-IPC (TSQFP, 144-Leads, Body 20.00x20.00mm, Pitch 0.50mm, IPC Medium Density)
pins: 1 GIOB_3, 2 GIOA_0, 3 MIBSPI3NCS_3, 4 MIBSPI3NCS_2, 5 GIOA_1, 6 N2HET1_11, 7 FLTP1, 8 FLTP2, 9 GIOA_2, 10 VCCIO, 11 VSS, 12 CAN3RX, 13 CAN3TX, 14 GIOA_5, 15 N2HET1_22, 16 GIOA_6, 17 VCC, 18 OSCIN, 19 Kelvin_GND, 20 OSCOUT, 21 VSS, 22 GIOA_7, 23 N2HET1_1, 24 N2HET1_3, 25 N2HET1_0, 26 VCCIO, 27 VSS, 28 VSS, 29 VCC, 30 N2HET1_2, 31 N2HET1_5, 32 MIBSPI5NCS_0, 33 N2HET1_7, 34 TEST, 35 N2HET1_9, 36 N2HET1_4, 37 MIBSPI3NCS_1, 38 N2HET1_6, 39 N2HET1_13, 40 MIBSPI1NCS_2, 41 N2HET1_15, 42 VCCIO, 43 VSS, 44 VSS, 45 VCC, 46 nPORRST, 47 VSS, 48 VCC, 49 VCC, 50 VSS, 51 MIBSPI3SOMI, 52 MIBSPI3SIMO, 53 MIBSPI3CLK, 54 MIBSPI3NENA, 55 MIBSPI3NCS_0, 56 VSS, 57 VCC, 58 AD1IN_16/AD2IN_0, 59 AD1IN_17/AD2IN_1, 60 AD1IN_0, 61 AD1IN_7, 62 AD1IN_18/AD2IN_2, 63 AD1IN_19/AD2IN_3, 64 AD1IN_20/AD2IN_4, 65 AD1IN_21/AD2IN_5, 66 ADREFHI, 67 ADREFLO, 68 VSSAD, 69 VCCAD, 70 AD1IN_9/AD2IN_9, 71 AD1IN_1, 72 AD1IN_10/AD2IN_10, 73 AD1IN_2, 74 AD1IN_3, 75 AD1IN_11/AD2IN_11, 76 AD1IN_4, 77 AD1IN_12/AD2IN_12, 78 AD1IN_5, 79 AD1IN_13/AD2IN_13, 80 AD1IN_6, 81 AD1IN_22/AD2IN_6, 82 AD1IN_14/AD2IN_14, 83 AD1IN_8/AD2IN_8, 84 AD1IN_23/AD2IN_7, 85 AD1IN_15/AD2IN_15, 86 AD1EVT, 87 VCC, 88 VSS, 89 CAN1TX, 90 CAN1RX, 91 N2HET1_24, 92 N2HET1_26, 93 MIBSPI1SIMO, 94 MIBSPI1SOMI, 95 MIBSPI1CLK, 96 MIBSPI1NENA, 97 MIBSPI5NENA, 98 MIBSPI5SOMI_0, 99 MIBSPI5SIMO_0, 100 MIBSPI5CLK, 101 VCC, 102 VSS, 103 VSS, 104 VCCIO, 105 MIBSPI1NCS_0, 106 N2HET1_8, 107 N2HET1_28, 108 TMS, 109 nTRST, 110 TDI, 111 TDO, 112 TCK, 113 RTCK, 114 VCC, 115 VSS, 116 nRST, 117 nERROR, 118 N2HET1_10, 119 ECLK, 120 VCCIO, 121 VSS, 122 VSS, 123 VCC, 124 N2HET1_12, 125 N2HET1_14, 126 GIOB_0, 127 N2HET1_30, 128 CAN2TX, 129 CAN2RX, 130 MIBSPI1NCS_1, 131 LINRX, 132 LINTX, 133 GIOB_1, 134 VCCP, 135 VSS, 136 VCCIO, 137 VCC, 138 VSS, 139 N2HET1_16, 140 N2HET1_18, 141 N2HET1_20, 142 GIOB_2, 143 VCC, 144 VSS

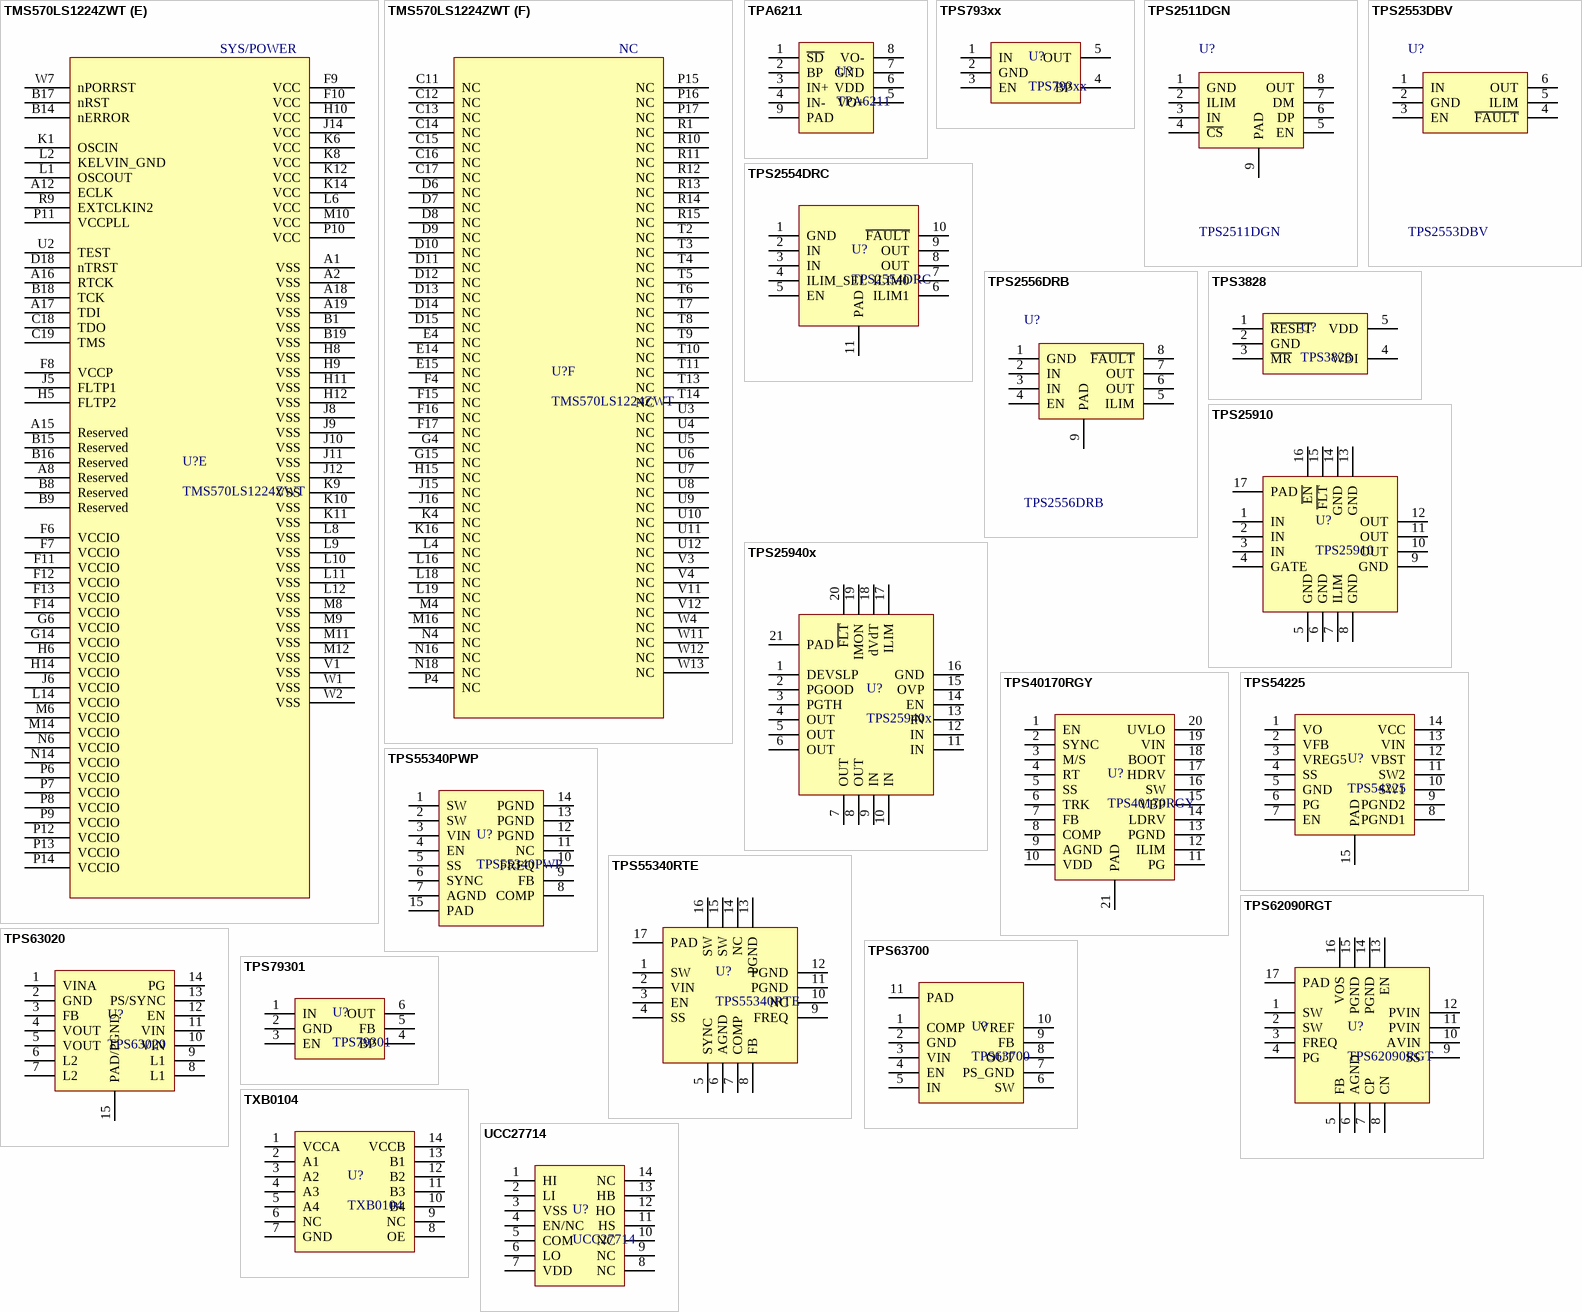
[diagram p3: symbols TMS570LS1224ZWT to UCC27714]

## TMS570LS1224ZWT
designator U?
16- and 32-Bit RISC Flash Microcontroller
footprint BGA337C80P19X19_1600X1600X140 (BGA, 337-Leads, Body 16.00x16.00mmx1.40mm, Pitch 0.80mm)
part A pins: N19 AD1EVT, P18 AD1IN[8]/AD2IN[8], P19 AD1IN[15]/AD1IN[15], R16 AD1IN[23]/AD1IN[7], R17 AD1IN[5], R18 AD1IN[14]/AD1IN[14], R19 AD1IN[22]/AD1IN[6], T15 AD1IN[21]/AD1IN[5], T16 AD1IN[12]/AD1IN[12], T17 AD1IN[3], T18 AD1IN[13]/AD1IN[13], T19 AD1IN[6], U13 AD1IN[17]/AD1IN[1], U14 AD1IN[18]/AD1IN[2], U15 AD1IN[20]/AD1IN[4], U16 AD1IN[19]/AD1IN[3], U17 AD1IN[10]/AD1IN[10], U18 AD1IN[4], U19 AD1IN[11]/AD1IN[11], V13 AD1IN[16]/AD1IN[0], V14 AD1IN[7], V15 ADREFHI, V16 ADREFLO, V17 AD1IN[1], V18 AD1IN[2], V19 VSSAD, W14 AD1IN[0], W15 VCCAD, W16 VSSAD, W17 AD1IN[9]/AD1IN[9], W18 VSSAD, W19 VSSAD
part B pins: A3 N2HET1[29], A4 N2HET1[16]/EPWM1SYNCI/EPWM1SYNCO, A9 N2HET1[27], A11 N2HET1[14], A13 N2HET1[17], A14 N2HET1[26], B3 N2HET1[22], B4 N2HET1[12], B11 N2HET1[30]/EQEP2S, B12 N2HET1[4]/EPWM4B, B13 N2HET1[19], D19 N2HET1[10]/nTZ3, E3 N2HET1[11]/MIBSPI3NCS[4]/N2HET2[18]/EPWM1SYNCO, E18 N2HET1[8]/MIBSPI1SIMO[1], H4 N2HET1[21], J1 N2HET1[18]/EPWM6A, J4 N2HET1[23], J17 N2HET1[31], K18 N2HET1[0]/SPI4CLK/EPWM2B, K19 N2HET1[28], M3 N2HET1[25], N1 N2HET1[15]/MIBSPI1NCS[4]/ECAP1, N2 N2HET1[13]/SCITX/EPWM5B, P1 N2HET1[24]/MIBSPI1NCS[5], P2 N2HET1[20]/EPWM6B, T1 N2HET1[7]/N2HET2[14]/EPWM7B, U1 N2HET1[3]/SPI4NCS[0]/N2HET2[10]/EQEP2B, V2 N2HET1[1]/SPI4NENA/N2HET2[8]/EQEP2A, V6 N2HET1[5]/SPI4SOMI[0]/N2HET2[12]/EPWM3B, V7 N2HET1[9]/N2HET2[16]/EPWM7A, W3 N2HET1[6]/SCIRX/EPWM5A, W5 N2HET1[2]/SPI4SIMO[0]/EPWM3A
part C pins: A5 GIOA[0], A6 GIOA[4], A7 LINRX, A10 CAN1TX, B2 MIBSPI3NCS[2]/I2C_SDA/N2HET1[27]/nTZ2, B5 GIOA[5]/EXTCLKIN/EPWM1A/N2HET1_PIN_nDIS, B6 MIBSPI5NCS[1], B7 LINTX, B10 CAN1RX, C1 GIOA[2]/N2HET2[0] /EQEP2I, C2 GIOA[1], C3 MIBSPI3NCS[3]/I2C_SCL/N2HET1[29]/nTZ1, D1 SPI2SIMO[0], D2 SPI2SOMI[0], D3 SPI2NENA/SPI2NCS[1], E1 GIOA[3]/N2HET2[2], E2 SPI2CLK, E16 MIBSPI5SIMO[1], E17 MIBSPI5SOMI[1], E19 MIBSPI5NCS[0]/EPWM4A, F1 GIOB[7], F2 GIOB[2], F3 MIBSPI1NCS[1]/N2HET1[17]/ EQEP1S, F18 MIBSPI1CLK, F19 MIBSPI1SIMO[0], G1 GIOB[4], G2 GIOB[5], G3 MIBSPI1NCS[2]/N2HET1[19], G16 MIBSPI5SOMI[3], G17 MIBSPI5SIMO[3], G18 MIBSPI1SOMI[0], G19 MIBSPI1NENA/N2HET1[23]/ECAP4, H1 CAN2RX, H2 CAN2TX, H3 GIOA[6]/N2HET2[4]/EPWM1B, H16 MIBSPI5SOMI[2], H17 MIBSPI5SIMO[2], H18 MIBSPI5NENA/MIBSPI5SOMI[1]/ECAP5, H19 MIBSPI5CLK, J2 GIOB[6], J3 MIBSPI1NCS[3]/N2HET1[21], J18 MIBSPI5SOMI[0], J19 MIBSPI5SIMO[0]/MIBSPI5SOMI[2], K2 GIOB[1], M1 GIOA[7]/N2HET2[6]/EPWM2A, M2 GIOB[0], M18 CAN3TX, M19 CAN3RX, N3 SPI2NCS[0], R2 MIBSPI1NCS[0]/MIBSPI1SOMI[1]/ECAP6, T12 MIBSPI5NCS[3], V5 MIBSPI3NCS[1]/N2HET1[25]/MDCLK, V8 MIBSPI3SOMI[0]/AWM1_EXT_ENA/ECAP2, V9 MIBSPI3CLK/AWM1_EXT_SEL[1]/EQEP1A, V10 MIBSPI3NCS[0]/AD2EVT/GIOB[2]/EQEP1I/N2HET2_PIN_nDIS, W6 MIBSPI5NCS[2], W8 MIBSPI3SIMO[0]/AWM1_EXT_SEL[0]/ECAP3, W9 MIBSPI3NENA/MIBSPI3NCS[5]/N2HET1[31]/EQEP1B, W10 GIOB[3]
part D pins: C4 EMIF_ADDR[6]/N2HET2[11], C5 EMIF_ADDR[7]/N2HET2[13], C6 EMIF_ADDR[8]/N2HET2[15], C7 EMIF_ADDR[9], C8 EMIF_ADDR[10], C9 EMIF_ADDR[11], C10 EMIF_ADDR[12], D4 EMIF_ADDR[0]/N2HET2[1], D5 EMIF_ADDR[1]/N2HET2[3], D16 EMIF_BA[1]/N2HET2[5], D17 EMIF_nWE, E5 EMIF_DATA[4], E6 EMIF_ADDR[2], E7 EMIF_ADDR[3], E8 EMIF_ADDR[4], E9 EMIF_ADDR[5], E10 EMIF_nDQM[0], E11 EMIF_nDQM[1], E12 EMIF_nOE, E13 EMIF_BA[0], F5 EMIF_DATA[5], G5 EMIF_DATA[6], K3 EMIF_CLK, K5 EMIF_DATA[7], K15 EMIF_DATA[0], K17 EMIF_nCS[3]/N2HET2[9], L3 EMIF_CKE, L5 EMIF_DATA[8], L15 EMIF_DATA[1], L17 EMIF_nCS[2], M5 EMIF_DATA[9], M15 EMIF_DATA[2], M17 EMIF_nCS[4], N5 EMIF_DATA[10], N15 EMIF_DATA[3], N17 EMIF_nCS[0]/N2HET2[7], P3 EMIF_nWAIT, P5 EMIF_DATA[11], R3 EMIF_nRAS, R4 EMIF_nCAS, R5 EMIF_DATA[12], R6 EMIF_DATA[13], R7 EMIF_DATA[14], R8 EMIF_DATA[15]
part E pins: A1 VSS, A2 VSS, A8 Reserved, A12 ECLK, A15 Reserved, A16 RTCK, A17 TDI, A18 VSS, A19 VSS, B1 VSS, B8 Reserved, B9 Reserved, B14 nERROR, B15 Reserved, B16 Reserved, B17 nRST, B18 TCK, B19 VSS, C18 TDO, C19 TMS, D18 nTRST, F6 VCCIO, F7 VCCIO, F8 VCCP, F9 VCC, F10 VCC, F11 VCCIO, F12 VCCIO, F13 VCCIO, F14 VCCIO, G6 VCCIO, G14 VCCIO, H5 FLTP2, H6 VCCIO, H8 VSS, H9 VSS, H10 VCC, H11 VSS, H12 VSS, H14 VCCIO, J5 FLTP1, J6 VCCIO, J8 VSS, J9 VSS, J10 VSS, J11 VSS, J12 VSS, J14 VCC, K1 OSCIN, K6 VCC, K8 VCC, K9 VSS, K10 VSS, K11 VSS, K12 VCC, K14 VCC, L1 OSCOUT, L2 KELVIN_GND, L6 VCC, L8 VSS, L9 VSS, L10 VSS, L11 VSS, L12 VSS, L14 VCCIO, M6 VCCIO, M8 VSS, M9 VSS, M10 VCC, M11 VSS, M12 VSS, M14 VCCIO, N6 VCCIO, N14 VCCIO, P6 VCCIO, P7 VCCIO, P8 VCCIO, P9 VCCIO, P10 VCC, P11 VCCPLL, P12 VCCIO, P13 VCCIO, P14 VCCIO, R9 EXTCLKIN2, U2 TEST, V1 VSS, W1 VSS, W2 VSS, W7 nPORRST
part F pins: C11 NC, C12 NC, C13 NC, C14 NC, C15 NC, C16 NC, C17 NC, D6 NC, D7 NC, D8 NC, D9 NC, D10 NC, D11 NC, D12 NC, D13 NC, D14 NC, D15 NC, E4 NC, E14 NC, E15 NC, F4 NC, F15 NC, F16 NC, F17 NC, G4 NC, G15 NC, H15 NC, J15 NC, J16 NC, K4 NC, K16 NC, L4 NC, L16 NC, L18 NC, L19 NC, M4 NC, M16 NC, N4 NC, N16 NC, N18 NC, P4 NC, P15 NC, P16 NC, P17 NC, R1 NC, R10 NC, R11 NC, R12 NC, R13 NC, R14 NC, R15 NC, T2 NC, T3 NC, T4 NC, T5 NC, T6 NC, T7 NC, T8 NC, T9 NC, T10 NC, T11 NC, T13 NC, T14 NC, U3 NC, U4 NC, U5 NC, U6 NC, U7 NC, U8 NC, U9 NC, U10 NC, U11 NC, U12 NC, V3 NC, V4 NC, V11 NC, V12 NC, W4 NC, W11 NC, W12 NC, W13 NC
part A text: MibADC
part B text: N2HET
part C text: GPIO/DCAN/LIN/SPI/MibSPI
part D text: EMIF
part E text: SYS/POWER

## TPA6211
designator U?
3.1-W MONO FULLY DIFFERENTIAL AUDIO POWER AMPLIFIER
footprint TSSOP-8-3x3-w.TP-IPC (TSSOP, 8-Leads, Body 3.00x3.00mm, Pitch 0.65mm, Thermal Pad 2.50.2x1.90.2mm, IPC Medium Density)
pins: 1 ~{SD}, 2 BP, 3 IN+, 4 IN-, 5 VO+, 6 VDD, 7 GND, 8 VO-, 9 PAD

## TPS793xx
designator U?
ULTRALOW-NOISE, HIGH-PSRR, FAST RF 200-mA LOW-DROPOUT LINEAR REGULATORS
footprint SOT23-5-IPC (SOT23, 5-Leads, Body 2.90x2.80mm, Pitch 0.95mm, IPC Medium Density)
pins: 1 IN, 2 GND, 3 EN, 4 BP, 5 OUT

## TPS2511DGN
designator U?
USB Dedicated Charging Port Controller and Current Limiting Power Switch
footprint TSSOP-8-3x3-w.TP-IPC (TSSOP, 8-Leads, Body 3.00x3.00mm, Pitch 0.65mm, Thermal Pad 2.50.2x1.90.2mm, IPC Medium Density)
pins: 1 GND, 2 ILIM, 3 IN, 4 ~{CS}, 5 EN, 6 DP, 7 DM, 8 OUT, 9 PAD

## TPS2553DBV
designator U?
PRECISION ADJUSTABLE CURRENT-LIMITED POWER-DISTRIBUTION SWITCHES
footprint SOT23-6-IPC (SOT23, 6-Leads, Body 2.90x2.80mm, Pitch 0.95mm, IPC Medium Density)
pins: 1 IN, 2 GND, 3 EN, 4 ~{FAULT}, 5 ILIM, 6 OUT

## TPS2554DRC
designator U?
Precision Adjustable Current-Limited, Power-Distribution Switches
pins: 1 GND, 2 IN, 3 IN, 4 ILIM_SEL, 5 EN, 6 ILIM1, 7 ILIM0, 8 OUT, 9 OUT, 10 ~{FAULT}, 11 PAD

## TPS2556DRB
designator U?
PRECISION ADJUSTABLE CURRENT-LIMITED POWER-DISTRIBUTION SWITCHES
footprint SON-8-3x3-w.TP-IPC (Footprint not found)
pins: 1 GND, 2 IN, 3 IN, 4 EN, 5 ILIM, 6 OUT, 7 OUT, 8 ~{FAULT}, 9 PAD

## TPS3828
designator U?
TPS382x Voltage Monitor With Watchdog Timer
footprint SOT23-5-IPC (SOT23, 5-Leads, Body 2.90x2.80mm, Pitch 0.95mm, IPC Medium Density)
pins: 1 ~{RESET}, 2 GND, 3 ~{MR}, 4 WDI, 5 VDD

## TPS25910
designator U?
6.5-A, 20-V Integrated Hotswap with Programmable Inrush Slew Rate
footprint QFN-16-4x4-w.TP-IPC (QFN, 16-Leads, Body 4.00x4.00mm, Pitch 0.65mm, Thermal Pad 2.70x2.70mm, IPC Medium Density)
pins: 1 IN, 2 IN, 3 IN, 4 GATE, 5 GND, 6 GND, 7 ILIM, 8 GND, 9 GND, 10 OUT, 11 OUT, 12 OUT, 13 GND, 14 GND, 15 ~{FLT}, 16 ~{EN}, 17 PAD

## TPS25940x
designator U?
18V eFuse with True Reverse Blocking and DevSleep Support for SSDs
footprint QFN-20-0.5-3x4-w.TP-IPC (QFN, 20-Leads, Body 4.00x3.00mm, Pitch 0.50mm, Thermal Pad 2.60x1.60mm, IPC Medium Density)
pins: 1 DEVSLP, 2 PGOOD, 3 PGTH, 4 OUT, 5 OUT, 6 OUT, 7 OUT, 8 OUT, 9 IN, 10 IN, 11 IN, 12 IN, 13 IN, 14 EN, 15 OVP, 16 GND, 17 ILIM, 18 dVdT, 19 IMON, 20 ~{FLT}, 21 PAD

## TPS40170RGY
designator U?
4.5 V to 60 V Wide Input Synchronous PWM Buck Controller
footprint QFN-20-3.5x4.5-w.TP-IPC (QFN, 20-Leads, Body 4.50x3.50mm, Pitch 0.50mm/1.50mm, Thermal Pad 3.05x2.05mm, IPC Medium Density)
pins: 1 EN, 2 SYNC, 3 M/S, 4 RT, 5 SS, 6 TRK, 7 FB, 8 COMP, 9 AGND, 10 VDD, 11 PG, 12 ILIM, 13 PGND, 14 LDRV, 15 VBP, 16 SW, 17 HDRV, 18 BOOT, 19 VIN, 20 UVLO, 21 PAD

## TPS54225
designator U?
4.5V to 18V Input, 2-A Synchronous Step-Down SWIFT Converter
footprint TSSOP-14-4.4x5-0.65-w.TP-IPC (TSOP, 14-Leads, Body 5.00x4.40mm, Pitch 0.65mm, Thermal Pad 2.30.2x2.45.2mm, IPC Medium Density)
pins: 1 VO, 2 VFB, 3 VREG5, 4 SS, 5 GND, 6 PG, 7 EN, 8 PGND1, 9 PGND2, 10 SW1, 11 SW2, 12 VBST, 13 VIN, 14 VCC, 15 PAD

## TPS55340PWP
designator U?
Integrated  5-A  40-V  Wide  Input  Range  Boost/SEPIC/Flyback  DC-DC  Regulator
footprint TSSOP-14-4.4x5-IPC (TSOP, 14-Leads, Body 5.00x4.40mm, Pitch 0.65mm, IPC Medium Density)
pins: 1 SW, 2 SW, 3 VIN, 4 EN, 5 SS, 6 SYNC, 7 AGND, 8 COMP, 9 FB, 10 FREQ, 11 NC, 12 PGND, 13 PGND, 14 PGND, 15 PAD

## TPS55340RTE
designator U?
Integrated  5-A  40-V  Wide  Input  Range  Boost/SEPIC/Flyback  DC-DC  Regulator
footprint QFN-16-3x3-w.TP-IPC (QFN, 16-Leads, Body 3.00x3.00mm, Pitch 0.50mm, Thermal Pad 1.60x1.60mm, IPC Medium Density)
pins: 1 SW, 2 VIN, 3 EN, 4 SS, 5 SYNC, 6 AGND, 7 COMP, 8 FB, 9 FREQ, 10 NC, 11 PGND, 12 PGND, 13 PGND, 14 NC, 15 SW, 16 SW, 17 PAD

## TPS62090RGT
designator U?
3A High Efficient Synchronous Step Down Converter with DCS? Control
footprint QFN-16-3x3-w.TP-IPC (QFN, 16-Leads, Body 3.00x3.00mm, Pitch 0.50mm, Thermal Pad 1.60x1.60mm, IPC Medium Density)
pins: 1 SW, 2 SW, 3 FREQ, 4 PG, 5 FB, 6 AGND, 7 CP, 8 CN, 9 SS, 10 AVIN, 11 PVIN, 12 PVIN, 13 EN, 14 PGND, 15 PGND, 16 VOS, 17 PAD

## TPS63020
designator U?
HIGH EFFICIENCY SINGLE INDUCTOR BUCK-BOOST CONVERTER WITH 4-A SWITCHES
footprint SON-14-3x4-w.TP-IPC (Footprint not found)
pins: 1 VINA, 2 GND, 3 FB, 4 VOUT, 5 VOUT, 6 L2, 7 L2, 8 L1, 9 L1, 10 VIN, 11 VIN, 12 EN, 13 PS/SYNC, 14 PG, 15 PAD/PGND

## TPS63700
designator U?
DC-DC Inverter
footprint DFN-10-0.5-3x3-w.TP-IPC (DFN, 10-Leads, Body 3.00x3.00mm, Pitch 0.50mm, Thermal Pad 2.38x1.65mm, IPC Medium Density)
pins: 1 COMP, 2 GND, 3 VIN, 4 EN, 5 IN, 6 SW, 7 PS_GND, 8 OUT, 9 FB, 10 VREF, 11 PAD

## TPS79301
designator U?
ULTRALOW-NOISE, HIGH-PSRR, FAST RF 200-mA LOW-DROPOUT LINEAR REGULATORS
footprint SOT23-6-IPC (SOT23, 6-Leads, Body 2.90x2.80mm, Pitch 0.95mm, IPC Medium Density)
pins: 1 IN, 2 GND, 3 EN, 4 BP, 5 FB, 6 OUT

## TXB0104
designator U?
4-Bit Bidirectional Voltage-level Translator With Automatic Direction Sensing  and ±15-kV ESD Protection
footprint TSSOP-14-4.4x5-IPC (TSOP, 14-Leads, Body 5.00x4.40mm, Pitch 0.65mm, IPC Medium Density)
pins: 1 VCCA, 2 A1, 3 A2, 4 A3, 5 A4, 6 NC, 7 GND, 8 OE, 9 NC, 10 B4, 11 B3, 12 B2, 13 B1, 14 VCCB

## UCC27714
designator U?
High-Speed, 600-V High-Side Low-Side Gate Driver  with 4-A Peak Output
footprint SOP-14-3.9x8.65-IPC (SOP, 14-Leads, Body 8.65x3.90mm, Pitch 1.27mm, IPC Medium Density)
pins: 1 HI, 2 LI, 3 VSS, 4 EN/NC, 5 COM, 6 LO, 7 VDD, 8 NC, 9 NC, 10 NC, 11 HS, 12 HO, 13 HB, 14 NC